# Altium footprint library Header-2.54mm-2X15-F-V.PcbLib: 1 footprints
Each footprint in its own frame and in the unit in brackets; x right, y up, seen from the top. Pads: shape width x height; smd on the part's side, far side on the other; paste and mask are expansions set on the pad; w line width, h text height; cw(c..) or ccw(c..) is an arc to the next point about the centre after c.
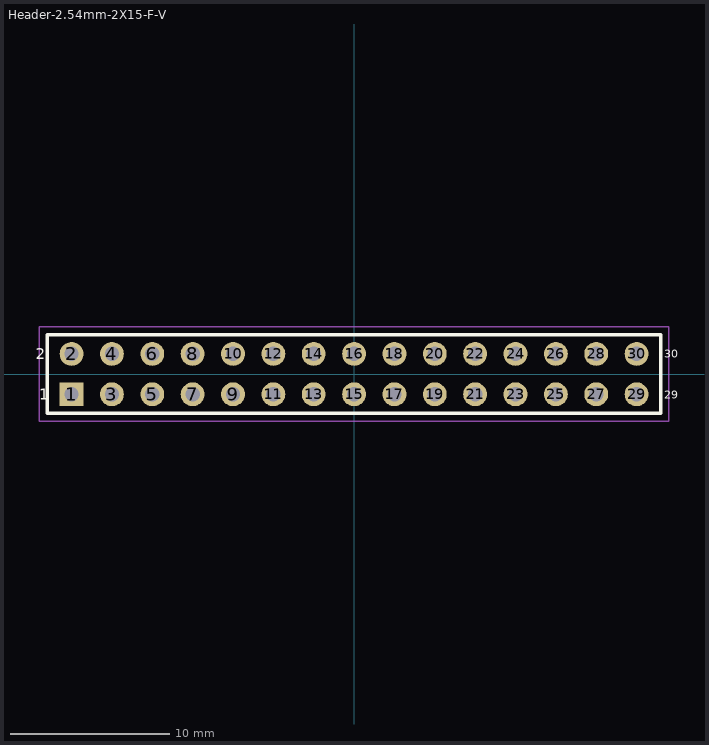
[diagram p0: the footprint, top view; thin cyan lines are the x and y axes]

## Header-2.54mm-2X15-F-V [mm]
pads (30):
  rect 1.5x1.5 hole 0.9: 1(-17.78,-1.27)
  round 1.5 hole 0.9: 2(-17.78,1.27) 3(-15.24,-1.27) 4(-15.24,1.27) 5(-12.7,-1.27) 6(-12.7,1.27) 7(-10.16,-1.27) 8(-10.16,1.27) 9(-7.62,-1.27) 10(-7.62,1.27) 11(-5.08,-1.27) 12(-5.08,1.27) 13(-2.54,-1.27) 14(-2.54,1.27) 15(0,-1.27) 16(0,1.27) 17(2.54,-1.27) 18(2.54,1.27) 19(5.08,-1.27) 20(5.08,1.27) 21(7.62,-1.27) 22(7.62,1.27) 23(10.16,-1.27) 24(10.16,1.27) 25(12.7,-1.27) 26(12.7,1.27) 27(15.24,-1.27) 28(15.24,1.27) 29(17.78,-1.27) 30(17.78,1.27)
Top Overlay:
  lines w0.2: -19.305,-2.47 19.295,-2.47 19.295,2.48 -19.305,2.48 -19.305,-2.47
  text "30" at 19.52,1.03 h0.5
  text "29" at 19.52,-1.545 h0.5
  text "1" at -19.805,-1.62 h0.7
  text "2" at -20.03,0.93 h0.7
Top Courtyard:
  lines w0.1: -19.805,-2.97 -19.805,2.98 19.795,2.98 19.795,-2.47 19.795,-2.97 -19.305,-2.97 -19.805,-2.97
3D body "SSW-115-01-G-D.stp": height 8.51, standoff -2.64, extent -19.305,-2.472 19.303,2.482